# Altium schematic symbol library Altera.SchLib: 5 symbols (part 2 of 2)
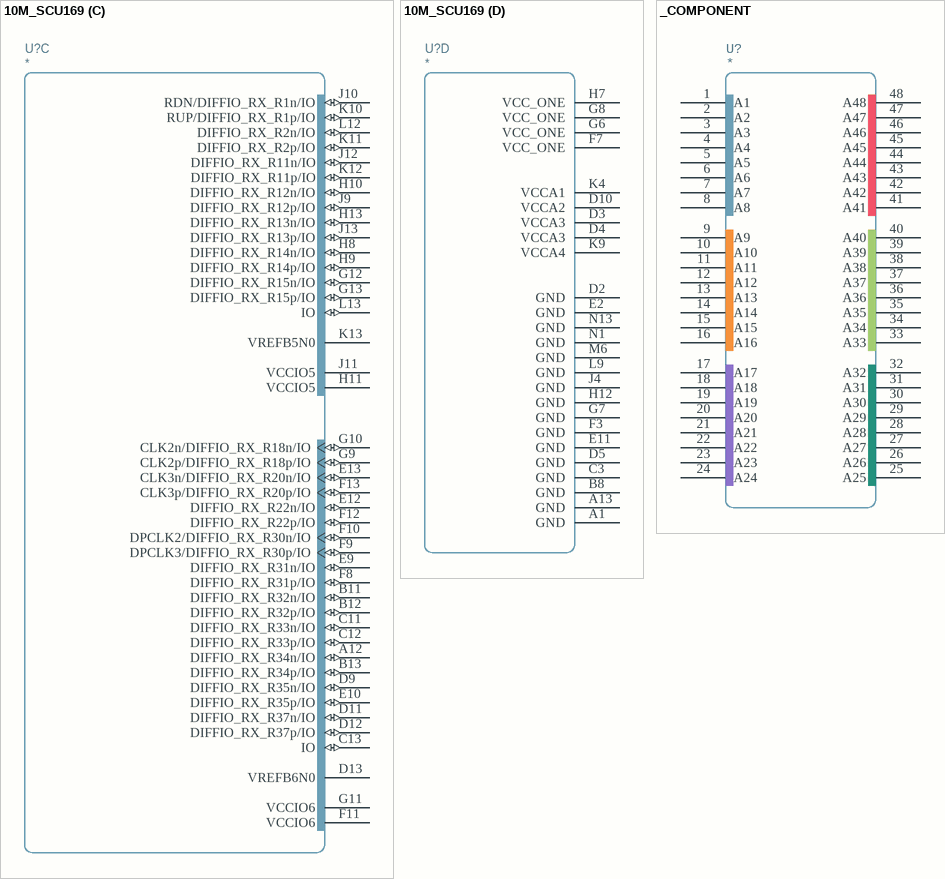
[diagram p8: symbols 10M_SCU169 to _COMPONENT]

## 10M_SCU169
designator U?
part A pins: A2 DIFFIO_RX_T38p/IO (io), A3 DIFFIO_RX_T33n/IO (io), A4 DIFFIO_RX_T33p/IO (io), A5 IO (io), A6 DIFFIO_RX_T31n/IO (io), A7 DIFFIO_RX_T31p/IO (io), A8 DIFFIO_RX_T27p/IO (io), A9 DIFFIO_RX_T27n/IO (io), A10 DIFFIO_RX_T29p/IO (io), A11 DIFFIO_RX_T29n/IO (io), B1 DIFFIO_RX_L5p/IO (io), B2 DIFFIO_RX_T38n/IO (io), B3 DIFFIO_RX_T35p/IO (io), B4 DIFFIO_RX_T35n/IO (io), B5 DIFFIO_RX_T32n/IO (io), B6 DIFFIO_RX_T32p/IO (io), B7 VREFB8N0, B9 DEV_CLRn/DIFFIO_RX_T28n/IO (io), B10 DIFFIO_RX_T28p/IO (io), C1 DIFFIO_RX_L5n/IO (io), C2 DIFFIO_RX_L1p/IO (io), C4 nSTATUS (io), C5 CONF_DONE (io), C6 VCCIO8, C7 VCCIO8, C8 VCCIO8, C9 CLK5n/DIFFIO_RX_T26n/IO (io), C10 CLK5p/DIFFIO_RX_T26p/IO (io), D1 DIFFIO_RX_L1n/IO (io), D6 CRC_ERROR/DIFFIO_RX_T34n/IO (io), D7 CONFIG_SEL (in), D8 DEV_OE/DIFFIO_RX_T30p/IO (io), E1 DIFFIO_RX_L7p/IO (io), E3 DIFFIO_RX_L3n/IO (io), E4 DIFFIO_RX_L3p/IO (io), E5 JTAGEN (in), E6 DIFFIO_RX_T34p/IO (io), E7 nCONFIG (in), E8 DIFFIO_RX_T30n/IO (io), F1 DIFFIO_RX_L7n/IO (io), F2 VCCIO1A, F4 DIFFIO_RX_L14n/IO (io), F5 TDI (in), F6 TDO (out), G1 TMS (in), G2 TCK (in), G3 VCCIO1B, G4 DIFFIO_RX_L14p/IO (io), H1 VREFB1N0, H2 DIFFIO_RX_L16n/IO (io), H3 DIFFIO_RX_L16p/IO (io)
part B pins: G5 CLK0n/DIFFIO_RX_L20n/IO (io), H4 CLK1p/DIFFIO_RX_L22p/IO (io), H5 CLK1n/DIFFIO_RX_L22n/IO (io), H6 CLK0p/DIFFIO_RX_L20p/IO (io), J1 DIFFIO_RX_L21n/IO (io), J2 DIFFIO_RX_L21p/IO (io), J3 VCCIO2, J5 DIFFIO_TX_RX_B3p/IO (io), J6 DIFFIO_TX_RX_B13n/IO (io), J7 DIFFIO_TX_RX_B15n/IO (io), J8 CLK7n/DIFFIO_TX_RX_B20n/IO (io), K1 DIFFIO_RX_L32n/IO (io), K2 DIFFIO_RX_L32p/IO (io), K3 VCCIO2, K5 DIFFIO_TX_RX_B3n/IO (io), K6 DIFFIO_TX_RX_B13p/IO (io), K7 DIFFIO_TX_RX_B15p/IO (io), K8 CLK7p/DIFFIO_TX_RX_B20p/IO (io), L1 VREFB2N0, L2 IO (io), L3 PLL_L_CLKOUTp/DIFFIO_RX_L31p/IO (io), L4 DIFFIO_TX_RX_B1p/IO (io), L5 DIFFIO_TX_RX_B1n/IO (io), L6 VCCIO3, L7 VCCIO3, L8 VCCIO3, L10 DIFFIO_TX_RX_B22p/IO (io), L11 CLK6p/DIFFIO_TX_RX_B18p/IO (io), M1 DIFFIO_RX_L23n/IO (io), M2 DIFFIO_RX_L23p/IO (io), M3 PLL_L_CLKOUTn/DIFFIO_RX_L31n/IO (io), M4 DIFFIO_RX_B2n/IO (io), M5 DIFFIO_RX_B2p/IO (io), M7 DIFFIO_TX_RX_B5p/IO (io), M8 DIFFIO_RX_B14n/IO (io), M9 DIFFIO_RX_B14p/IO (io), M10 DIFFIO_TX_RX_B22n/IO (io), M11 CLK6n/DIFFIO_TX_RX_B18n/IO (io), M12 DIFFIO_TX_RX_B16p/IO (io), M13 DIFFIO_TX_RX_B16n/IO (io), N2 DPCLK0/DIFFIO_RX_L24n/IO (io), N3 DPCLK1/DIFFIO_RX_L24p/IO (io), N4 DIFFIO_RX_B4n/IO (io), N5 DIFFIO_RX_B4p/IO (io), N6 DIFFIO_TX_RX_B5n/IO (io), N7 DIFFIO_RX_B6n/IO (io), N8 DIFFIO_RX_B6p/IO (io), N9 DIFFIO_RX_B17p/IO (io), N10 DIFFIO_RX_B17n/IO (io), N11 VREFB3N0, N12 IO (io)
part C pins: A12 DIFFIO_RX_R34n/IO (io), B11 DIFFIO_RX_R32n/IO (io), B12 DIFFIO_RX_R32p/IO (io), B13 DIFFIO_RX_R34p/IO (io), C11 DIFFIO_RX_R33n/IO (io), C12 DIFFIO_RX_R33p/IO (io), C13 IO (io), D9 DIFFIO_RX_R35n/IO (io), D11 DIFFIO_RX_R37n/IO (io), D12 DIFFIO_RX_R37p/IO (io), D13 VREFB6N0, E9 DIFFIO_RX_R31n/IO (io), E10 DIFFIO_RX_R35p/IO (io), E12 DIFFIO_RX_R22n/IO (io), E13 CLK3n/DIFFIO_RX_R20n/IO (io), F8 DIFFIO_RX_R31p/IO (io), F9 DPCLK3/DIFFIO_RX_R30p/IO (io), F10 DPCLK2/DIFFIO_RX_R30n/IO (io), F11 VCCIO6, F12 DIFFIO_RX_R22p/IO (io), F13 CLK3p/DIFFIO_RX_R20p/IO (io), G9 CLK2p/DIFFIO_RX_R18p/IO (io), G10 CLK2n/DIFFIO_RX_R18n/IO (io), G11 VCCIO6, G12 DIFFIO_RX_R15n/IO (io), G13 DIFFIO_RX_R15p/IO (io), H8 DIFFIO_RX_R14n/IO (io), H9 DIFFIO_RX_R14p/IO (io), H10 DIFFIO_RX_R12n/IO (io), H11 VCCIO5, H13 DIFFIO_RX_R13n/IO (io), J9 DIFFIO_RX_R12p/IO (io), J10 RDN/DIFFIO_RX_R1n/IO (io), J11 VCCIO5, J12 DIFFIO_RX_R11n/IO (io), J13 DIFFIO_RX_R13p/IO (io), K10 RUP/DIFFIO_RX_R1p/IO (io), K11 DIFFIO_RX_R2p/IO (io), K12 DIFFIO_RX_R11p/IO (io), K13 VREFB5N0, L12 DIFFIO_RX_R2n/IO (io), L13 IO (io)
part D pins: A1 GND, A13 GND, B8 GND, C3 GND, D2 GND, D3 VCCA3, D4 VCCA3, D5 GND, D10 VCCA2, E2 GND, E11 GND, F3 GND, F7 VCC_ONE, G6 VCC_ONE, G7 GND, G8 VCC_ONE, H7 VCC_ONE, H12 GND, J4 GND, K4 VCCA1, K9 VCCA4, L9 GND, M6 GND, N1 GND, N13 GND

## _COMPONENT
designator U?
pins: 1 A1, 2 A2, 3 A3, 4 A4, 5 A5, 6 A6, 7 A7, 8 A8, 9 A9, 10 A10, 11 A11, 12 A12, 13 A13, 14 A14, 15 A15, 16 A16, 17 A17, 18 A18, 19 A19, 20 A20, 21 A21, 22 A22, 23 A23, 24 A24, 25 A25, 26 A26, 27 A27, 28 A28, 29 A29, 30 A30, 31 A31, 32 A32, 33 A33, 34 A34, 35 A35, 36 A36, 37 A37, 38 A38, 39 A39, 40 A40, 41 A41, 42 A42, 43 A43, 44 A44, 45 A45, 46 A46, 47 A47, 48 A48